# Altium footprint library Switches.PcbLib: 25 footprints (part 1 of 2)
Each footprint in its own frame and in the unit in brackets; x right, y up, seen from the top. Pads: shape width x height; smd on the part's side, far side on the other; paste and mask are expansions set on the pad; w line width, h text height; cw(c..) or ccw(c..) is an arc to the next point about the centre after c.
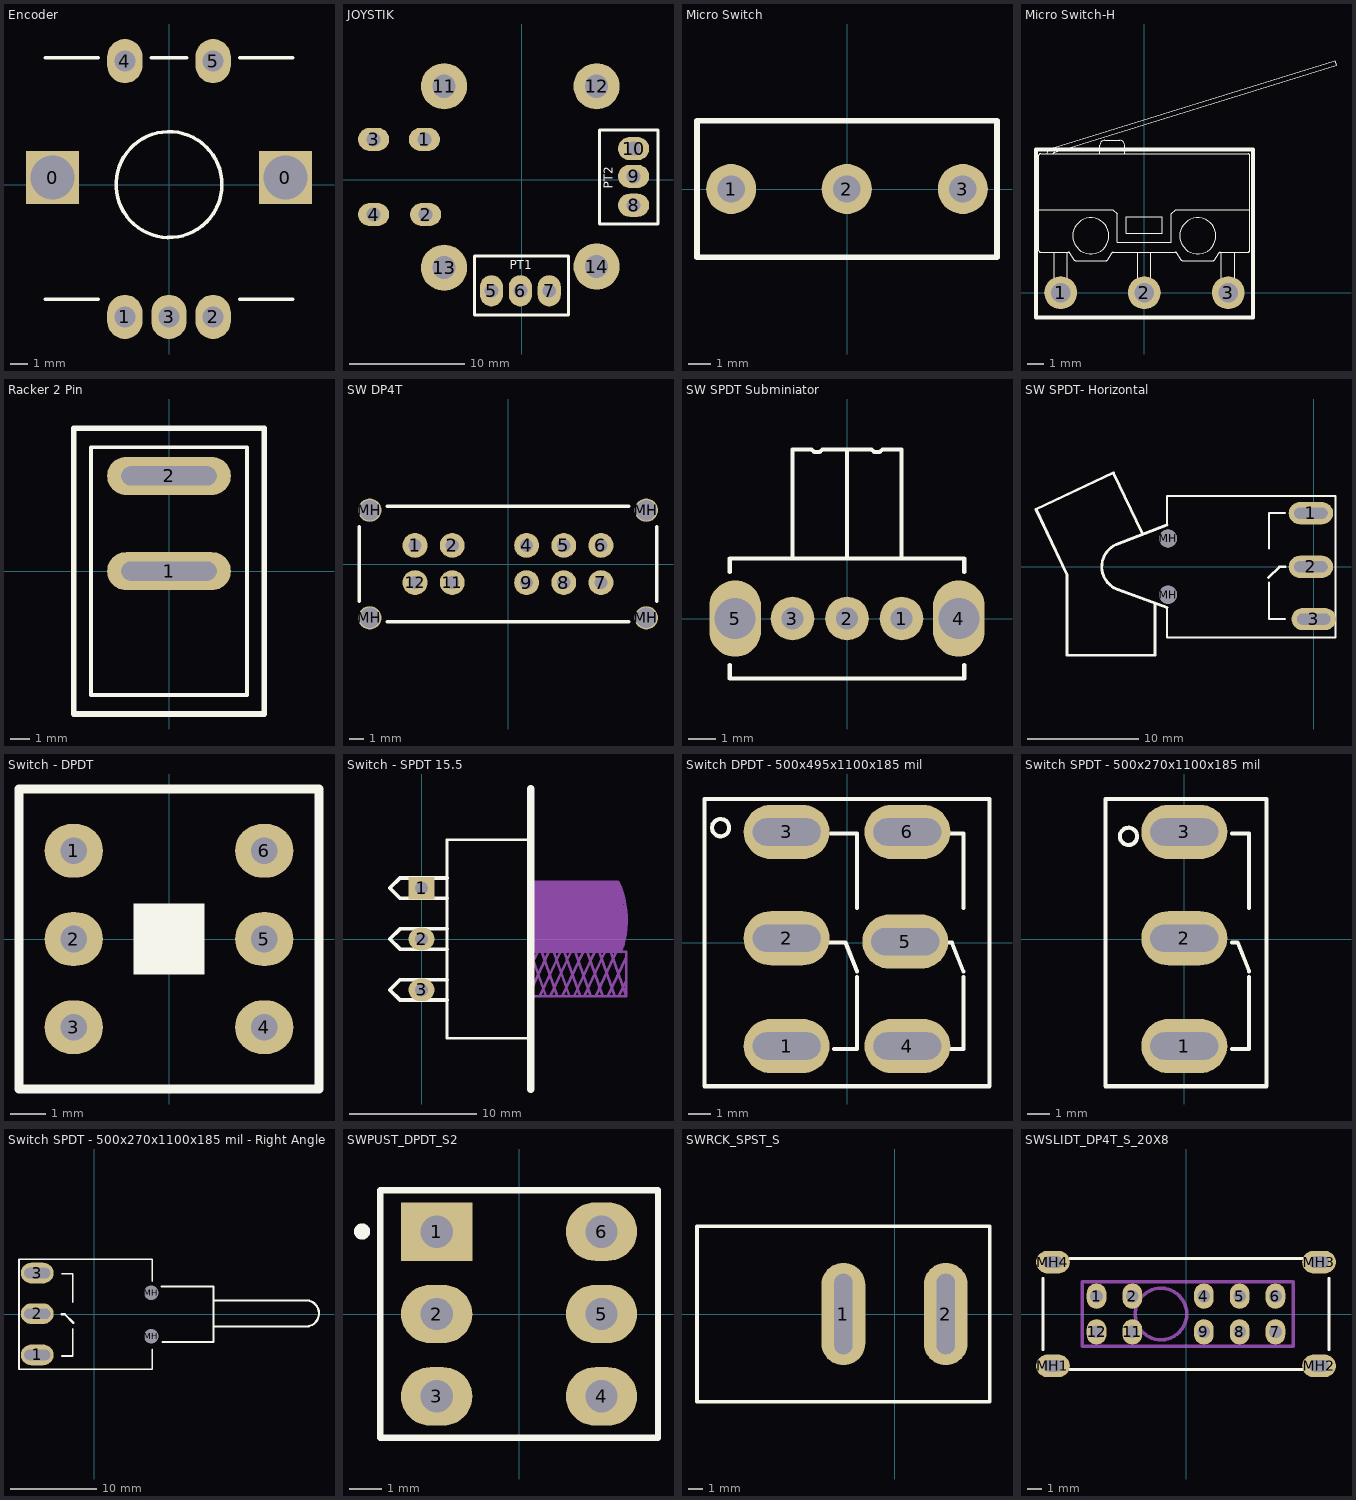
[diagram p0: the footprints below, top view; thin cyan lines are the x and y axes]

## Encoder [mm] "Alps Enkoder+ sw"
height 4
pads (7):
  rect 3x3 hole 2.5: 0(-6.6,0.4)
  rect 3x3 hole 2.5 unplated: 0(6.6,0.4)
  oval 2x2.5 hole 1.2: 1(-2.5,-7.5) 2(2.5,-7.5) 3(0,-7.5) 4(-2.5,7) 5(2.5,7)
Top Overlay:
  circle w0.2: c0,0 r3
  lines w0.2: -7,-6.5 -4,-6.5 ; -7,7.2 -4,7.2 ; -1,7.2 1,7.2 ; 4,-6.5 7,-6.5 ; 4,7.2 7,7.2
3D body "SW3dPS-Encoder Alpha RE111F-41B3N-15F-20P.STEP": height 21.5, standoff -2.98, extent -6.847,-7.83 6.808,7

## JOYSTIK [mm]
pads (14):
  oval 2.7x2 hole 1.2: 1(-8.4,3.5) 2(-8.3,-3) 3(-12.8,3.5) 4(-12.8,-3) 8(9.7,-2.2) 9(9.7,0.3) 10(9.7,2.7)
  oval 2x2.7 hole 1.2: 5(-2.6,-9.6) 6(-0.1,-9.6) 7(2.4,-9.6)
  round 4 hole 2: 11(-6.7,8.1) 12(6.5,8.1) 13(-6.7,-7.6) 14(6.5,-7.5)
Top Overlay:
  lines w0.254: -4.064,-11.684 4.064,-11.684 4.064,-6.604 -4.064,-6.604 -4.064,-11.684 ; 6.731,-3.81 11.811,-3.81 11.811,4.318 6.731,4.318 6.731,-3.81
  text "PT2" at 7.874,-0.762 h0.76
  text "PT1" at -1.016,-7.747 h0.76
3D body "User Library-ALPS JOYSTICK.STEP": height 30.09, standoff -3.69, extent -16.106,-12.8 12.931,13.5

## Micro Switch [mm]
pads (3):
  round 2.2 hole 1.2: 1(-5.09,0) 2(-0.01,0) 3(5.09,0)
Top Overlay:
  lines w0.254: -6.59,-3 -6.59,3 6.59,3 6.59,-3 -6.59,-3
3D body "User Library-DM3-03P.SLDPRT": height 12.14, standoff -3.5, extent -6.41,-2.9 11.634,2.9

## Micro Switch-H [mm]
pads (3):
  round 2 hole 1.2: 1(-5.09,0) 2(-0.01,0) 3(5.09,0)
Top Overlay:
  circle w0.051: c-3.26,3.451 r1.1
  circle w0.051: c3.24,3.451 r1.1
  lines w0.051: -5.952,8.451 cw(c-5.36,8.183) -5.552,8.804 11.546,14.095 11.634,13.808 -5.463,8.517 ccw(c-5.36,8.183) -5.584,8.451 ; -5.49,-0.3 -5.49,2.451 ; -4.69,-0.3 -4.69,2.451 ; -2.71,8.451 -2.71,8.951 cw(c-2.41,8.951) -2.41,9.251 -1.51,9.251 cw(c-1.51,8.951) -1.21,8.951 -1.21,8.451 ; -0.41,-0.3 -0.41,2.451 ; 0.39,-0.3 0.39,2.451 ; 4.67,-0.3 4.67,2.451 ; 5.47,-0.3 5.47,2.451 ; -6.41,5.051 -6.41,8.351 cw(c-6.31,8.351) -6.31,8.451 6.29,8.451 cw(c6.29,8.351) 6.39,8.351 6.39,5.051 ; -6.41,5.051 -1.919,5.051 -1.66,4.793 -1.66,3.051 1.64,3.051 1.64,4.793 1.899,5.051 6.39,5.051 ; -6.41,5.051 -6.41,2.551 ccw(c-6.31,2.551) -6.31,2.451 -4.617,2.451 cw(c-4.617,2.351) -4.531,2.403 -4.289,2 ccw(c-4.203,2.051) -4.203,1.951 -2.317,1.951 ccw(c-2.317,2.051) -2.231,2 -1.989,2.403 cw(c-1.903,2.351) -1.903,2.451 1.883,2.451 cw(c1.883,2.351) 1.969,2.403 2.211,2 ccw(c2.297,2.051) 2.297,1.951 4.183,1.951 ccw(c4.183,2.051) 4.269,2 4.511,2.403 cw(c4.597,2.351) 4.597,2.451 6.29,2.451 ccw(c6.29,2.551) 6.39,2.551 6.39,5.051 ; -1.11,3.601 1.09,3.601 1.09,4.601 -1.11,4.601 -1.11,3.601
  lines w0.254: -6.59,-1.5 -6.59,8.7 6.59,8.7 6.59,-1.5 -6.59,-1.5
3D body "User Library-DM3-03P.STEP": height 5.9, standoff -3, extent -6.41,-0.3 11.634,14.095

## Racker 2 Pin [mm]
pads (2):
  oval 6.5x2 hole 1 slot 5 at 0 deg: 1(0,0) 2(0,5)
Top Overlay:
  lines w0.2: -4.1,-6.5 -4.1,6.5 4.1,6.5 4.1,-6.5 -4.1,-6.5
  lines w0.3: -5,-7.5 -5,7.5 5,7.5 5,-7.5 -5,-7.5
3D body "On Off.STEP": height 12.62, standoff -5.9, extent -5.169,-7.385 5.131,7.315

## SW DP4T [mm]
pads (14):
  round 1.7 hole 0.9: 1(-6.35,1.27) 2(-3.81,1.27) 4(1.27,1.27) 5(3.81,1.27) 6(6.35,1.27) 7(6.35,-1.27) 8(3.81,-1.27) 9(1.27,-1.27) 11(-3.81,-1.27) 12(-6.35,-1.27)
  round 1.6 hole 1.4: MH(-9.449,-3.683) MH(-9.449,3.683) MH(9.449,-3.683) MH(9.449,3.683)
Top Overlay:
  lines w0.254: -10.16,-2.54 -10.16,2.54 ; -8.255,-3.937 8.255,-3.937 ; -8.255,3.937 8.255,3.937 ; 10.16,-2.54 10.16,2.54
3D body "DP4T.STEP": height 12.25, standoff -2.3, extent -10.075,-3.9 10.075,3.9

## SW SPDT Subminiator [mm] "Subminiator SPDT switch"
pads (5):
  round 1.6 hole 0.8: 1(2,0) 2(0,0) 3(-2,0)
  oval 1.9x2.8 hole 1.5: 4(4.1,0) 5(-4.1,0)
Top Overlay:
  lines w0.15: -4.3,-1.7 -4.3,-2.2 4.3,-2.2 4.3,-1.7 ; -4.3,1.7 -4.3,2.2 4.3,2.2 4.3,1.7 ; -2,2.2 -2,6.2 ; 0,2.2 0,6.2 ; 2,2.2 2,6.2 1.3,6.2 1.2,6.1 1,6.1 0.9,6.2 0,6.2 ; -2,6.2 -2,6.2 ; -2,6.2 -1.3,6.2 -1.2,6.1 -1,6.1 -0.9,6.2 0,6.2 ; 0,6.2 0,6.2 ; 0,6.2 0,6.2
3D body "User Library-CK_Slide.step": height 4.7, standoff -2.79, extent -4.311,-2.279 4.3,6.093

## SW SPDT- Horizontal [mm]
pads (5):
  oval 4x2 hole 1 slot 3 at 0 deg: 1(-0.254,4.826) 2(-0.254,0) 3(0,-4.7)
  round 1.6 hole 1.651: MH(-13.1,-2.5) MH(-13.1,2.549)
Top Overlay:
  lines w0.178: -13.2,-3.662 -13.2,-6.35 1.956,-6.35 1.956,6.35 -13.2,6.35 -13.2,3.752 ; -4.034,-1.397 -4.034,-4.699 -2.586,-4.699 ; -4.034,1.651 -4.034,4.826 -2.586,4.826
  lines w0.254: -17.783,1.996 ccw(c-16.875,0.012) -17.685,-2.015 ; -17.75,2 -13.2,3.752 ; -17.626,-2.045 -13.2,-3.662 ; -15.418,3.023 -18.009,8.458 -24.968,5.182 -22.174,-0.737 -22.174,-7.95 -14.275,-7.95 -14.275,-3.251 ; -4.064,-0.965 -3.094,0 -2.586,0
3D body "SW3dPS-300-sp1-j1-blk.STEP": height 9.64, standoff -3.18, extent -25.056,-7.944 0.433,8.537

## Switch - DPDT [mil]
pads (6):
  oval 65x60 hole 30: 1(-106.3,98.43) 2(-106.3,0) 3(-106.3,-98.43) 4(106.3,-98.43) 5(106.3,0) 6(106.3,98.43)
Top Overlay:
  rectangle: -39.37,-39.37 39.37,39.37
  lines w10: -167.32,-167.32 167.32,-167.32 167.32,167.32 -167.32,167.32 -167.32,-167.32
3D body "DPDT.STEP": height 559.05, standoff -129.92, extent -167.32,-167.32 167.32,167.32

## Switch - SPDT 15.5 [mil]
pads (3):
  rect 80x70 hole 40: 1(0,157.48)
  oval 80x70 hole 40: 2(0,0) 3(0,-157.48)
Top Overlay:
  lines w7.87: 338.58,-307.09 78.74,-307.09 78.74,307.09 338.58,307.09
  lines w11.81: 78.74,-188.98 -66.93,-188.98 -98.43,-157.48 -66.93,-125.98 78.74,-125.98 ; 78.74,-31.5 -66.93,-31.5 -98.43,0 -66.93,31.5 78.74,31.5 ; 78.74,125.98 -66.93,125.98 -98.43,157.48 -66.93,188.98 78.74,188.98
  lines w23.62: 338.58,-464.57 338.58,464.57
Mechanical 3:
  rectangle: 607.87,-23.62 622.44,-9.05
  rectangle: 596.06,158.66 612.6,168.11
  rectangle: 596.06,135.83 619.68,164.17
  rectangle: 596.06,105.51 624.41,135.83
  rectangle: 617.04,-14.17 627.56,22.44
  rectangle: 596.06,-40.38 617.04,12.2
  rectangle: 596.06,12.2 631.5,105.51
  rectangle: 338.58,-39.37 607.48,177.17
  lines w7.87: 331.5,-174.02 394.09,-39.37 ; 337.01,-39.37 385.43,-177.17 ; 338.58,-177.17 633.86,-177.17 ; 338.58,-83.86 359.45,-39.37 ; 338.58,-39.37 633.86,-39.37 633.86,-177.17 ; 338.58,177.17 607.48,177.17 ; 366.14,-177.17 428.74,-42.52 ; 371.65,-39.37 420.08,-177.17 ; 398.82,-177.17 461.42,-42.52 ; 409.84,-39.37 458.27,-177.17 ; 436.22,-177.17 498.82,-42.52 ; 442.52,-39.37 490.94,-177.17 ; 472.05,-177.17 534.65,-42.52 ; 475.98,-39.37 524.41,-177.17 ; 503.94,-177.17 566.54,-42.52 ; 512.99,-39.37 561.42,-177.17 ; 538.98,-177.17 601.57,-42.52 ; 550.39,-39.37 598.82,-177.17 ; 577.17,-177.17 633.86,-56.69 ; 585.43,-39.37 633.86,-177.17 ; 611.02,-177.17 633.86,-128.35
  lines w10: 608.82,176.89 cw(c338.58,57.87) 617.36,-39.48
3D body "spdt.STEP": height 356.3, standoff -157.48, extent -68.5,-462.01 659.84,462.01

## Switch DPDT - 500x495x1100x185 mil [mm]
pads (6):
  oval 3.8x2.4 hole 1.2 slot 3 at 0 deg: 1(-2.667,-4.572) 2(-2.667,0.192) 3(-2.667,4.891) 4(2.667,-4.572) 5(2.575,0.044) 6(2.667,4.891)
Top Overlay:
  circle w0.178: c-5.588,5.08 r0.381
  lines w0.178: -1.079,0 -0.064,0 0.445,-1.27 ; -0.699,4.826 0.445,4.826 0.445,1.524 ; -0.572,-4.699 0.445,-4.699 0.445,-1.524 ; 3.619,0 4.635,0 5.143,-1.27 ; 4,4.826 5.143,4.826 5.143,1.524 ; 4.127,-4.699 5.143,-4.699 5.143,-1.524 ; -6.299,-6.35 6.299,-6.35 6.299,6.35 -6.299,6.35 -6.299,-6.35
3D body "SWITCH DPDT.STEP": height 28.53, standoff -2.54, extent -6.427,-6.22 6.146,6.48

## Switch SPDT - 500x270x1100x185 mil [mm]
pads (3):
  oval 3.8x2.4 hole 1.2 slot 3 at 0 deg: 1(0,-4.731) 2(0,0.032) 3(0,4.731)
Top Overlay:
  circle w0.178: c-2.464,4.54 r0.381
  lines w0.178: 2.101,-4.858 2.87,-4.858 2.87,-1.683 ; 2.101,-0.159 2.362,-0.159 2.87,-1.429 ; 2.101,4.667 2.87,4.667 2.87,1.365 ; -3.48,-6.509 3.632,-6.509 3.632,6.191 -3.48,6.191 -3.48,-6.509
3D body "SWITCH SPDT.STEP": height 28.65, standoff -2.41, extent -3.339,-6.509 3.519,6.191

## Switch SPDT - 500x270x1100x185 mil - Right Angle [mm]
pads (5):
  oval 3.8x2.4 hole 1.2 slot 3 at 0 deg: 1(-6.588,-4.731) 2(-6.588,0.032) 3(-6.588,4.731)
  round 1.6 hole 1.651: MH(6.588,-2.582) MH(6.588,2.468)
Top Overlay:
  lines w0.178: -3.773,-4.858 -2.478,-4.858 -2.478,-1.683 ; -3.748,4.667 -2.478,4.667 -2.478,1.365 ; 6.688,-4.096 6.688,-6.382 -8.701,-6.382 -8.701,6.318 6.688,6.318 6.688,3.803
  lines w0.254: -3.773,-0.032 -3.418,-0.032 -2.402,-1.048 ; 7.784,3.168 13.788,3.168 13.788,-3.232 7.885,-3.232 ; 13.788,1.568 24.688,1.568 cw(c24.488,0.068) 24.619,-1.44 ; 13.888,-1.432 24.618,-1.432
3D body "SW3dPS-Switch toggle NKK M2012SA2W30.STEP": height 8.06, standoff -4.18, extent -6.787,-6.535 26.014,6.47

## SWPUST_DPDT_S2 [mm] "Switch, Push, DPDT, THD, Straight"
pads (6):
  rect 2.2x1.8 hole 1: 1(-2.54,2.54)
  oval 2.2x1.8 hole 1: 2(-2.54,0) 3(-2.54,-2.54) 4(2.54,-2.54) 5(2.54,0) 6(2.54,2.54)
Top Overlay:
  circle w0.25: c-4.836,2.541 r0.125
  lines w0.2: -4.28,-3.81 -4.28,3.81 4.28,3.81 4.28,-3.81 -4.28,-3.81
3D body "SWITCH 6PIN.STEP": height 14, standoff -3, extent -3.55,-3.55 3.45,3.45

## SWRCK_SPST_S [mm] "SWITCH Rocker, SPST, Straight"
pads (2):
  oval 3x7 hole 1.25 slot 5.5 at 90 deg: 1(-3.5,0) 2(3.5,0)
Top Overlay:
  lines w0.254: -13.5,-6 -13.5,6 6.5,6 6.5,-6 -13.5,-6
3D body "button-1.STEP": height 16.8, standoff -8, extent -14.75,-8.5 7.75,8.5

## SWSLIDT_DP4T_S_20X8 [mm]
pads (14):
  oval 1.4x1.8 hole 0.9: 1(-6.35,1.27) 2(-3.81,1.27) 4(1.27,1.27) 5(3.81,1.27) 6(6.35,1.27) 7(6.35,-1.27) 8(3.81,-1.27) 9(1.27,-1.27) 11(-3.81,-1.27) 12(-6.35,-1.27)
  oval 2.4x1.6 hole 0.8 slot 1.4 at 0 deg: MH1(-9.449,-3.683) MH2(9.449,-3.683) MH3(9.449,3.683) MH4(-9.449,3.683)
Top Overlay:
  lines w0.2: -10.16,-2.54 -10.16,2.54 ; -8.255,-3.937 8.255,-3.937 ; -8.255,3.937 8.255,3.937 ; 10.16,-2.54 10.16,2.54
Mechanical 2:
  circle w0.254: c-1.778,0 r1.832
  lines w0.254: -7.366,-2.286 -7.366,2.286 7.62,2.286 7.62,-2.286 -7.366,-2.286
3D body "DP4T.STEP": height 12.25, standoff -2.3, extent -10.075,-3.9 10.075,3.9